# Altium integrated library Actel ProASIC A500K FPGA.IntLib: 292 symbols (part 2 of 2)
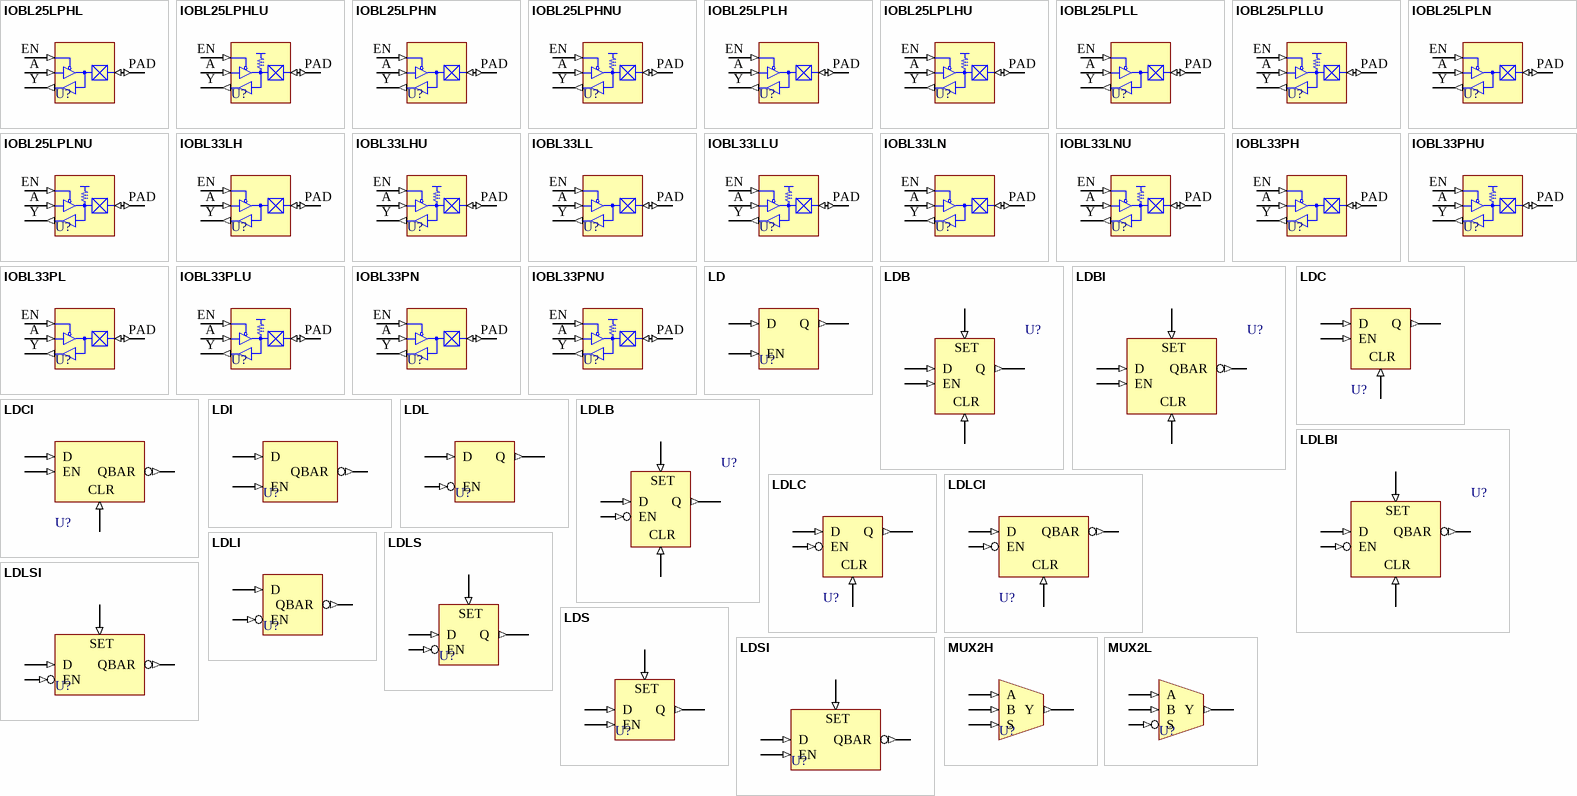
[diagram p8: symbols IOBL25LPHL to MUX2L]

## IOBL33LNU
designator U?
3.3 Volt CMOS input levels, low strength drive, normal slew rate, with pull-up resistor; FPGAVendor: Actel; Published: 21-Jul-2004; Publisher: Altium Limited; HelpURL: http://www.actel.com/documents/PA_libguide.pdf
pins: A (in), EN (in), PAD (io), Y (out)

## IOBL33PH
designator U?
3.3 Volt CMOS input levels, PCI compliant, high slew rate; FPGAVendor: Actel; Published: 21-Jul-2004; Publisher: Altium Limited; HelpURL: http://www.actel.com/documents/PA_libguide.pdf
pins: A (in), EN (in), PAD (io), Y (out)

## IOBL33PHU
designator U?
3.3 Volt CMOS input levels, PCI compliant, high slew rate, with pull-up resistor; FPGAVendor: Actel; Published: 21-Jul-2004; Publisher: Altium Limited; HelpURL: http://www.actel.com/documents/PA_libguide.pdf
pins: A (in), EN (in), PAD (io), Y (out)

## IOBL33PL
designator U?
3.3 Volt CMOS input levels, PCI compliant, low slew rate; FPGAVendor: Actel; Published: 21-Jul-2004; Publisher: Altium Limited; HelpURL: http://www.actel.com/documents/PA_libguide.pdf
pins: A (in), EN (in), PAD (io), Y (out)

## IOBL33PLU
designator U?
3.3 Volt CMOS input levels, PCI compliant, low slew rate, with pull-up resistor; FPGAVendor: Actel; Published: 21-Jul-2004; Publisher: Altium Limited; HelpURL: http://www.actel.com/documents/PA_libguide.pdf
pins: A (in), EN (in), PAD (io), Y (out)

## IOBL33PN
designator U?
3.3 Volt CMOS input levels, PCI compliant, normal slew rate; FPGAVendor: Actel; Published: 21-Jul-2004; Publisher: Altium Limited; HelpURL: http://www.actel.com/documents/PA_libguide.pdf
pins: A (in), EN (in), PAD (io), Y (out)

## IOBL33PNU
designator U?
3.3 Volt CMOS input levels, PCI compliant, normal slew rate, with pull-up resistor; FPGAVendor: Actel; Published: 21-Jul-2004; Publisher: Altium Limited; HelpURL: http://www.actel.com/documents/PA_libguide.pdf
pins: A (in), EN (in), PAD (io), Y (out)

## LD
designator U?
Active High Latch; FPGAVendor: Actel; Published: 21-Jul-2004; Publisher: Altium Limited; HelpURL: http://www.actel.com/documents/PA_libguide.pdf
pins: D (in), EN (in), Q (out)

## LDB
designator U?
Active High Latch with Active High Set and Clear; FPGAVendor: Actel; Published: 21-Jul-2004; Publisher: Altium Limited; HelpURL: http://www.actel.com/documents/PA_libguide.pdf
pins: CLR (in), D (in), EN (in), Q (out), SET (in)

## LDBI
designator U?
Active High Latch with Active High Set and Clear and Active Low Output; FPGAVendor: Actel; Published: 21-Jul-2004; Publisher: Altium Limited; HelpURL: http://www.actel.com/documents/PA_libguide.pdf
pins: CLR (in), D (in), EN (in), QBAR (out), SET (in)

## LDC
designator U?
Active High Latch with Active High Clear; FPGAVendor: Actel; Published: 21-Jul-2004; Publisher: Altium Limited; HelpURL: http://www.actel.com/documents/PA_libguide.pdf
pins: CLR (in), D (in), EN (in), Q (out)

## LDCI
designator U?
Active High Latch with Active High Clear and Active Low Output; FPGAVendor: Actel; Published: 21-Jul-2004; Publisher: Altium Limited; HelpURL: http://www.actel.com/documents/PA_libguide.pdf
pins: CLR (in), D (in), EN (in), QBAR (out)

## LDI
designator U?
Active High Latch with Active Low Output; FPGAVendor: Actel; Published: 21-Jul-2004; Publisher: Altium Limited; HelpURL: http://www.actel.com/documents/PA_libguide.pdf
pins: D (in), EN (in), QBAR (out)

## LDL
designator U?
Active Low Latch; FPGAVendor: Actel; Published: 21-Jul-2004; Publisher: Altium Limited; HelpURL: http://www.actel.com/documents/PA_libguide.pdf
pins: D (in), EN (in), Q (out)

## LDLB
designator U?
Active Low Latch with Active High Set and Clear; FPGAVendor: Actel; Published: 21-Jul-2004; Publisher: Altium Limited; HelpURL: http://www.actel.com/documents/PA_libguide.pdf
pins: CLR (in), D (in), EN (in), Q (out), SET (in)

## LDLBI
designator U?
Active Low Latch with Active High Set and Clear and Active Low Output; FPGAVendor: Actel; Published: 21-Jul-2004; Publisher: Altium Limited; HelpURL: http://www.actel.com/documents/PA_libguide.pdf
pins: CLR (in), D (in), EN (in), QBAR (out), SET (in)

## LDLC
designator U?
Active Low Latch with Active High Clear; FPGAVendor: Actel; Published: 21-Jul-2004; Publisher: Altium Limited; HelpURL: http://www.actel.com/documents/PA_libguide.pdf
pins: CLR (in), D (in), EN (in), Q (out)

## LDLCI
designator U?
Active Low Latch with Active High Clear and Active Low Output; FPGAVendor: Actel; Published: 21-Jul-2004; Publisher: Altium Limited; HelpURL: http://www.actel.com/documents/PA_libguide.pdf
pins: CLR (in), D (in), EN (in), QBAR (out)

## LDLI
designator U?
Active Low Latch with Active Low Output; FPGAVendor: Actel; Published: 21-Jul-2004; Publisher: Altium Limited; HelpURL: http://www.actel.com/documents/PA_libguide.pdf
pins: D (in), EN (in), QBAR (out)

## LDLS
designator U?
Active Low Latch with Active High Set; FPGAVendor: Actel; Published: 21-Jul-2004; Publisher: Altium Limited; HelpURL: http://www.actel.com/documents/PA_libguide.pdf
pins: D (in), EN (in), Q (out), SET (in)

## LDLSI
designator U?
Active Low Latch with Active High Set and Active Low Output; FPGAVendor: Actel; Published: 21-Jul-2004; Publisher: Altium Limited; HelpURL: http://www.actel.com/documents/PA_libguide.pdf
pins: D (in), EN (in), QBAR (out), SET (in)

## LDS
designator U?
Active High Latch with Active High Set; FPGAVendor: Actel; Published: 21-Jul-2004; Publisher: Altium Limited; HelpURL: http://www.actel.com/documents/PA_libguide.pdf
pins: D (in), EN (in), Q (out), SET (in)

## LDSI
designator U?
Active High Latch with Active High Set and Active Low Output; FPGAVendor: Actel; Published: 21-Jul-2004; Publisher: Altium Limited; HelpURL: http://www.actel.com/documents/PA_libguide.pdf
pins: D (in), EN (in), QBAR (out), SET (in)

## MUX2H
designator U?
2 to 1 Multiplexer; FPGAVendor: Actel; Published: 21-Jul-2004; Publisher: Altium Limited; HelpURL: http://www.actel.com/documents/PA_libguide.pdf
pins: A (in), B (in), S (in), Y (out)

## MUX2L
designator U?
2 to 1 Multiplexer with Active Low Select; FPGAVendor: Actel; Published: 21-Jul-2004; Publisher: Altium Limited; HelpURL: http://www.actel.com/documents/PA_libguide.pdf
pins: A (in), B (in), S (in), Y (out)

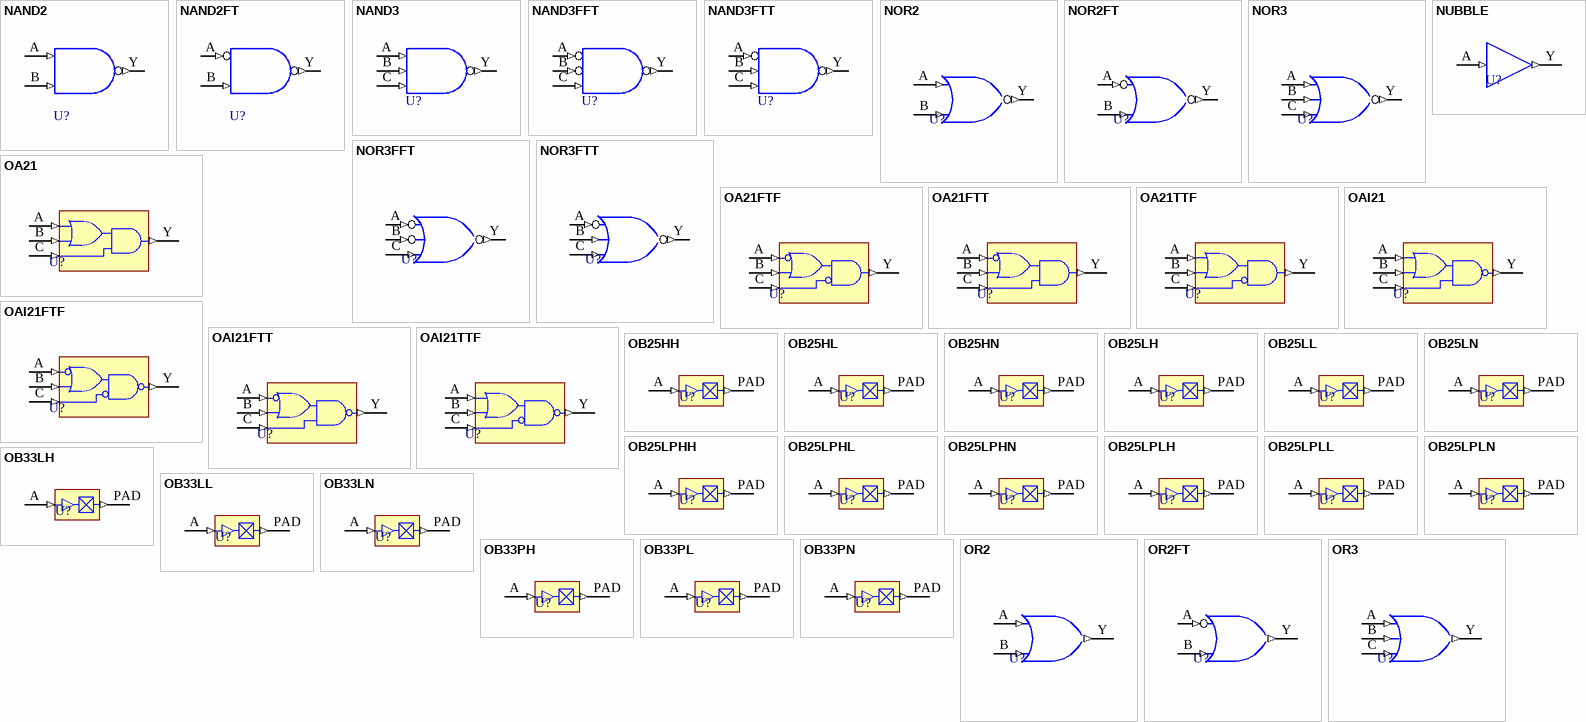
[diagram p5: symbols NAND2 to OR3]

## NAND2
designator U?
2 Input NAND; FPGAVendor: Actel; Published: 21-Jul-2004; Publisher: Altium Limited; HelpURL: http://www.actel.com/documents/PA_libguide.pdf
pins: A (in), B (in), Y (out)

## NAND2FT
designator U?
2 Input NAND with Active Low A Input; FPGAVendor: Actel; Published: 21-Jul-2004; Publisher: Altium Limited; HelpURL: http://www.actel.com/documents/PA_libguide.pdf
pins: A (in), B (in), Y (out)

## NAND3
designator U?
3 Input NAND; FPGAVendor: Actel; Published: 21-Jul-2004; Publisher: Altium Limited; HelpURL: http://www.actel.com/documents/PA_libguide.pdf
pins: A (in), B (in), C (in), Y (out)

## NAND3FFT
designator U?
NAND3FFT; FPGAVendor: Actel; Published: 21-Jul-2004; Publisher: Altium Limited; HelpURL: http://www.actel.com/documents/PA_libguide.pdf
pins: A (in), B (in), C (in), Y (out)

## NAND3FTT
designator U?
NAND3FTT; FPGAVendor: Actel; Published: 21-Jul-2004; Publisher: Altium Limited; HelpURL: http://www.actel.com/documents/PA_libguide.pdf
pins: A (in), B (in), C (in), Y (out)

## NOR2
designator U?
2 Input NOR; FPGAVendor: Actel; Published: 21-Jul-2004; Publisher: Altium Limited; HelpURL: http://www.actel.com/documents/PA_libguide.pdf
pins: A (in), B (in), Y (out)

## NOR2FT
designator U?
2 Input NOR with Active Low A Input; FPGAVendor: Actel; Published: 21-Jul-2004; Publisher: Altium Limited; HelpURL: http://www.actel.com/documents/PA_libguide.pdf
pins: A (in), B (in), Y (out)

## NOR3
designator U?
3 Input NOR; FPGAVendor: Actel; Published: 21-Jul-2004; Publisher: Altium Limited; HelpURL: http://www.actel.com/documents/PA_libguide.pdf
pins: A (in), B (in), C (in), Y (out)

## NOR3FFT
designator U?
3 Input NOR with Active Low A and B Inputs; FPGAVendor: Actel; Published: 21-Jul-2004; Publisher: Altium Limited; HelpURL: http://www.actel.com/documents/PA_libguide.pdf
pins: A (in), B (in), C (in), Y (out)

## NOR3FTT
designator U?
3 Input NOR with Active Low A Input; FPGAVendor: Actel; Published: 21-Jul-2004; Publisher: Altium Limited; HelpURL: http://www.actel.com/documents/PA_libguide.pdf
pins: A (in), B (in), C (in), Y (out)

## NUBBLE
designator U?
Buffer (Only for internal embedded memory); FPGAVendor: Actel; Published: 21-Jul-2004; Publisher: Altium Limited; HelpURL: http://www.actel.com/documents/PA_libguide.pdf
pins: A (in), Y (out)

## OA21
designator U?
3 Input OR-AND; FPGAVendor: Actel; Published: 21-Jul-2004; Publisher: Altium Limited; HelpURL: http://www.actel.com/documents/PA_libguide.pdf
pins: A (in), B (in), C (in), Y (out)

## OA21FTF
designator U?
3 Input OR-AND with Active Low A and C Inputs; FPGAVendor: Actel; Published: 21-Jul-2004; Publisher: Altium Limited; HelpURL: http://www.actel.com/documents/PA_libguide.pdf
pins: A (in), B (in), C (in), Y (out)

## OA21FTT
designator U?
3 Input OR-AND with Active Low A Input; FPGAVendor: Actel; Published: 21-Jul-2004; Publisher: Altium Limited; HelpURL: http://www.actel.com/documents/PA_libguide.pdf
pins: A (in), B (in), C (in), Y (out)

## OA21TTF
designator U?
3 Input OR-AND with Active Low C Input; FPGAVendor: Actel; Published: 21-Jul-2004; Publisher: Altium Limited; HelpURL: http://www.actel.com/documents/PA_libguide.pdf
pins: A (in), B (in), C (in), Y (out)

## OAI21
designator U?
3 Input OR-NAND; FPGAVendor: Actel; Published: 21-Jul-2004; Publisher: Altium Limited; HelpURL: http://www.actel.com/documents/PA_libguide.pdf
pins: A (in), B (in), C (in), Y (out)

## OAI21FTF
designator U?
3 Input OR-NAND with Active Low A and C Inputs; FPGAVendor: Actel; Published: 21-Jul-2004; Publisher: Altium Limited; HelpURL: http://www.actel.com/documents/PA_libguide.pdf
pins: A (in), B (in), C (in), Y (out)

## OAI21FTT
designator U?
3 Input OR-NAND with Active Low A Input; FPGAVendor: Actel; Published: 21-Jul-2004; Publisher: Altium Limited; HelpURL: http://www.actel.com/documents/PA_libguide.pdf
pins: A (in), B (in), C (in), Y (out)

## OAI21TTF
designator U?
3 Input OR-NAND with Active Low C Input; FPGAVendor: Actel; Published: 21-Jul-2004; Publisher: Altium Limited; HelpURL: http://www.actel.com/documents/PA_libguide.pdf
pins: A (in), B (in), C (in), Y (out)

## OB25HH
designator U?
2.5 Volt CMOS input levels, high strength drive, high slew rate; FPGAVendor: Actel; Published: 21-Jul-2004; Publisher: Altium Limited; HelpURL: http://www.actel.com/documents/PA_libguide.pdf
pins: A (in), PAD (out)

## OB25HL
designator U?
2.5 Volt CMOS input levels, high strength drive, low slew rate; FPGAVendor: Actel; Published: 21-Jul-2004; Publisher: Altium Limited; HelpURL: http://www.actel.com/documents/PA_libguide.pdf
pins: A (in), PAD (out)

## OB25HN
designator U?
2.5 Volt CMOS input levels, high strength drive, normal slew rate; FPGAVendor: Actel; Published: 21-Jul-2004; Publisher: Altium Limited; HelpURL: http://www.actel.com/documents/PA_libguide.pdf
pins: A (in), PAD (out)

## OB25LH
designator U?
2.5 Volt CMOS input levels, low strength drive, high slew rate; FPGAVendor: Actel; Published: 21-Jul-2004; Publisher: Altium Limited; HelpURL: http://www.actel.com/documents/PA_libguide.pdf
pins: A (in), PAD (out)

## OB25LL
designator U?
2.5 Volt CMOS input levels, low strength drive, low slew rate; FPGAVendor: Actel; Published: 21-Jul-2004; Publisher: Altium Limited; HelpURL: http://www.actel.com/documents/PA_libguide.pdf
pins: A (in), PAD (out)

## OB25LN
designator U?
2.5 Volt CMOS input levels, low strength drive, normal slew rate; FPGAVendor: Actel; Published: 21-Jul-2004; Publisher: Altium Limited; HelpURL: http://www.actel.com/documents/PA_libguide.pdf
pins: A (in), PAD (out)

## OB25LPHH
designator U?
2.5 Volt CMOS input levels, low power, high strength drive, high slew rate; FPGAVendor: Actel; Published: 21-Jul-2004; Publisher: Altium Limited; HelpURL: http://www.actel.com/documents/PA_libguide.pdf
pins: A (in), PAD (out)

## OB25LPHL
designator U?
2.5 Volt CMOS input levels, low power, high strength drive, low slew rate; FPGAVendor: Actel; Published: 21-Jul-2004; Publisher: Altium Limited; HelpURL: http://www.actel.com/documents/PA_libguide.pdf
pins: A (in), PAD (out)

## OB25LPHN
designator U?
2.5 Volt CMOS input levels, low power, high strength drive, normal slew rate; FPGAVendor: Actel; Published: 21-Jul-2004; Publisher: Altium Limited; HelpURL: http://www.actel.com/documents/PA_libguide.pdf
pins: A (in), PAD (out)

## OB25LPLH
designator U?
2.5 Volt CMOS input levels, low power, low strength drive, high slew rate; FPGAVendor: Actel; Published: 21-Jul-2004; Publisher: Altium Limited; HelpURL: http://www.actel.com/documents/PA_libguide.pdf
pins: A (in), PAD (out)

## OB25LPLL
designator U?
2.5 Volt CMOS input levels, low power, low strength drive, low slew rate; FPGAVendor: Actel; Published: 21-Jul-2004; Publisher: Altium Limited; HelpURL: http://www.actel.com/documents/PA_libguide.pdf
pins: A (in), PAD (out)

## OB25LPLN
designator U?
2.5 Volt CMOS input levels, low power, low strength drive, normal slew rate; FPGAVendor: Actel; Published: 21-Jul-2004; Publisher: Altium Limited; HelpURL: http://www.actel.com/documents/PA_libguide.pdf
pins: A (in), PAD (out)

## OB33LH
designator U?
3.3 Volt CMOS input levels, low strength drive, high slew rate; FPGAVendor: Actel; Published: 21-Jul-2004; Publisher: Altium Limited; HelpURL: http://www.actel.com/documents/PA_libguide.pdf
pins: A (in), PAD (out)

## OB33LL
designator U?
3.3 Volt CMOS input levels, low strength drive, low slew rate; FPGAVendor: Actel; Published: 21-Jul-2004; Publisher: Altium Limited; HelpURL: http://www.actel.com/documents/PA_libguide.pdf
pins: A (in), PAD (out)

## OB33LN
designator U?
3.3 Volt CMOS input levels, low strength drive, normal slew rate; FPGAVendor: Actel; Published: 21-Jul-2004; Publisher: Altium Limited; HelpURL: http://www.actel.com/documents/PA_libguide.pdf
pins: A (in), PAD (out)

## OB33PH
designator U?
3.3 Volt CMOS input levels, PCI compliant, high slew rate; FPGAVendor: Actel; Published: 21-Jul-2004; Publisher: Altium Limited; HelpURL: http://www.actel.com/documents/PA_libguide.pdf
pins: A (in), PAD (out)

## OB33PL
designator U?
3.3 Volt CMOS input levels, PCI compliant, low slew rate; FPGAVendor: Actel; Published: 21-Jul-2004; Publisher: Altium Limited; HelpURL: http://www.actel.com/documents/PA_libguide.pdf
pins: A (in), PAD (out)

## OB33PN
designator U?
3.3 Volt CMOS input levels, PCI compliant, normal slew rate; FPGAVendor: Actel; Published: 21-Jul-2004; Publisher: Altium Limited; HelpURL: http://www.actel.com/documents/PA_libguide.pdf
pins: A (in), PAD (out)

## OR2
designator U?
2 Input OR; FPGAVendor: Actel; Published: 21-Jul-2004; Publisher: Altium Limited; HelpURL: http://www.actel.com/documents/PA_libguide.pdf
pins: A (in), B (in), Y (out)

## OR2FT
designator U?
2 Input OR with Active Low A Input; FPGAVendor: Actel; Published: 21-Jul-2004; Publisher: Altium Limited; HelpURL: http://www.actel.com/documents/PA_libguide.pdf
pins: A (in), B (in), Y (out)

## OR3
designator U?
3 Input OR; FPGAVendor: Actel; Published: 21-Jul-2004; Publisher: Altium Limited; HelpURL: http://www.actel.com/documents/PA_libguide.pdf
pins: A (in), B (in), C (in), Y (out)

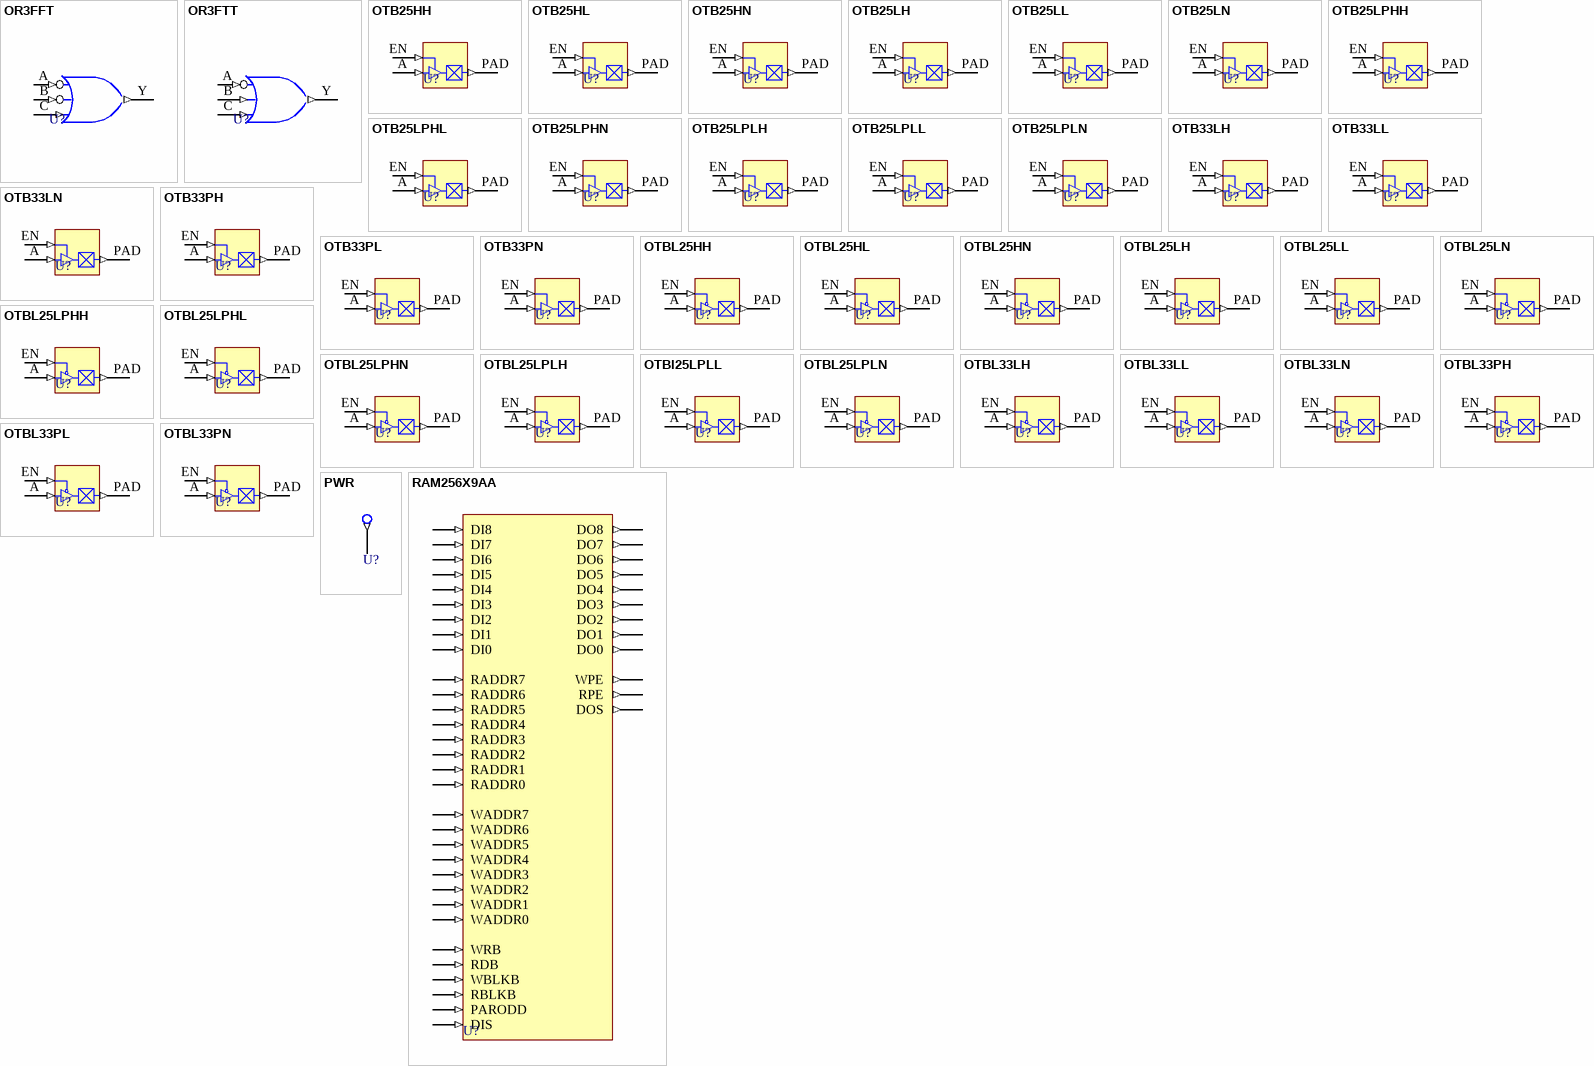
[diagram p6: symbols OR3FFT to RAM256X9AA]

## OR3FFT
designator U?
3 Input OR with Active Low A and B Inputs; FPGAVendor: Actel; Published: 21-Jul-2004; Publisher: Altium Limited; HelpURL: http://www.actel.com/documents/PA_libguide.pdf
pins: A (in), B (in), C (in), Y (out)

## OR3FTT
designator U?
3 Input OR with Active Low A Input; FPGAVendor: Actel; Published: 21-Jul-2004; Publisher: Altium Limited; HelpURL: http://www.actel.com/documents/PA_libguide.pdf
pins: A (in), B (in), C (in), Y (out)

## OTB25HH
designator U?
2.5 Volt CMOS input levels, high strength drive, high slew rate; FPGAVendor: Actel; Published: 21-Jul-2004; Publisher: Altium Limited; HelpURL: http://www.actel.com/documents/PA_libguide.pdf
pins: A (in), EN (in), PAD (out)

## OTB25HL
designator U?
2.5 Volt CMOS input levels, high strength drive, low slew rate; FPGAVendor: Actel; Published: 21-Jul-2004; Publisher: Altium Limited; HelpURL: http://www.actel.com/documents/PA_libguide.pdf
pins: A (in), EN (in), PAD (out)

## OTB25HN
designator U?
2.5 Volt CMOS input levels, high strength drive, normal slew rate; FPGAVendor: Actel; Published: 21-Jul-2004; Publisher: Altium Limited; HelpURL: http://www.actel.com/documents/PA_libguide.pdf
pins: A (in), EN (in), PAD (out)

## OTB25LH
designator U?
2.5 Volt CMOS input levels, low strength drive, high slew rate; FPGAVendor: Actel; Published: 21-Jul-2004; Publisher: Altium Limited; HelpURL: http://www.actel.com/documents/PA_libguide.pdf
pins: A (in), EN (in), PAD (out)

## OTB25LL
designator U?
2.5 Volt CMOS input levels, low strength drive, low slew rate; FPGAVendor: Actel; Published: 21-Jul-2004; Publisher: Altium Limited; HelpURL: http://www.actel.com/documents/PA_libguide.pdf
pins: A (in), EN (in), PAD (out)

## OTB25LN
designator U?
2.5 Volt CMOS input levels, low strength drive, normal slew rate; FPGAVendor: Actel; Published: 21-Jul-2004; Publisher: Altium Limited; HelpURL: http://www.actel.com/documents/PA_libguide.pdf
pins: A (in), EN (in), PAD (out)

## OTB25LPHH
designator U?
2.5 Volt CMOS input levels, low power, high strength drive, high slew rate; FPGAVendor: Actel; Published: 21-Jul-2004; Publisher: Altium Limited; HelpURL: http://www.actel.com/documents/PA_libguide.pdf
pins: A (in), EN (in), PAD (out)

## OTB25LPHL
designator U?
2.5 Volt CMOS input levels, low power, high strength drive, low slew rate; FPGAVendor: Actel; Published: 21-Jul-2004; Publisher: Altium Limited; HelpURL: http://www.actel.com/documents/PA_libguide.pdf
pins: A (in), EN (in), PAD (out)

## OTB25LPHN
designator U?
2.5 Volt CMOS input levels, low power, high strength drive, normal slew rate; FPGAVendor: Actel; Published: 21-Jul-2004; Publisher: Altium Limited; HelpURL: http://www.actel.com/documents/PA_libguide.pdf
pins: A (in), EN (in), PAD (out)

## OTB25LPLH
designator U?
2.5 Volt CMOS input levels, low power, low strength drive, high slew rate; FPGAVendor: Actel; Published: 21-Jul-2004; Publisher: Altium Limited; HelpURL: http://www.actel.com/documents/PA_libguide.pdf
pins: A (in), EN (in), PAD (out)

## OTB25LPLL
designator U?
2.5 Volt CMOS input levels, low power, low strength drive, low slew rate; FPGAVendor: Actel; Published: 21-Jul-2004; Publisher: Altium Limited; HelpURL: http://www.actel.com/documents/PA_libguide.pdf
pins: A (in), EN (in), PAD (out)

## OTB25LPLN
designator U?
2.5 Volt CMOS input levels, low power, low strength drive, normal slew rate; FPGAVendor: Actel; Published: 21-Jul-2004; Publisher: Altium Limited; HelpURL: http://www.actel.com/documents/PA_libguide.pdf
pins: A (in), EN (in), PAD (out)

## OTB33LH
designator U?
3.3 Volt CMOS input levels, low strength drive, high slew rate; FPGAVendor: Actel; Published: 21-Jul-2004; Publisher: Altium Limited; HelpURL: http://www.actel.com/documents/PA_libguide.pdf
pins: A (in), EN (in), PAD (out)

## OTB33LL
designator U?
3.3 Volt CMOS input levels, low strength drive, low slew rate; FPGAVendor: Actel; Published: 21-Jul-2004; Publisher: Altium Limited; HelpURL: http://www.actel.com/documents/PA_libguide.pdf
pins: A (in), EN (in), PAD (out)

## OTB33LN
designator U?
3.3 Volt CMOS input levels, low strength drive, normal slew rate; FPGAVendor: Actel; Published: 21-Jul-2004; Publisher: Altium Limited; HelpURL: http://www.actel.com/documents/PA_libguide.pdf
pins: A (in), EN (in), PAD (out)

## OTB33PH
designator U?
3.3 Volt CMOS input levels, PCI compliant, high slew rate; FPGAVendor: Actel; Published: 21-Jul-2004; Publisher: Altium Limited; HelpURL: http://www.actel.com/documents/PA_libguide.pdf
pins: A (in), EN (in), PAD (out)

## OTB33PL
designator U?
3.3 Volt CMOS input levels, PCI compliant, low slew rate; FPGAVendor: Actel; Published: 21-Jul-2004; Publisher: Altium Limited; HelpURL: http://www.actel.com/documents/PA_libguide.pdf
pins: A (in), EN (in), PAD (out)

## OTB33PN
designator U?
3.3 Volt CMOS input levels, PCI compliant, normal slew rate; FPGAVendor: Actel; Published: 21-Jul-2004; Publisher: Altium Limited; HelpURL: http://www.actel.com/documents/PA_libguide.pdf
pins: A (in), EN (in), PAD (out)

## OTBL25HH
designator U?
2.5 Volt CMOS input levels, high strength drive, high slew rate; FPGAVendor: Actel; Published: 21-Jul-2004; Publisher: Altium Limited; HelpURL: http://www.actel.com/documents/PA_libguide.pdf
pins: A (in), EN (in), PAD (out)

## OTBL25HL
designator U?
2.5 Volt CMOS input levels, high strength drive, low slew rate; FPGAVendor: Actel; Published: 21-Jul-2004; Publisher: Altium Limited; HelpURL: http://www.actel.com/documents/PA_libguide.pdf
pins: A (in), EN (in), PAD (out)

## OTBL25HN
designator U?
2.5 Volt CMOS input levels, high strength drive, normal slew rate; FPGAVendor: Actel; Published: 21-Jul-2004; Publisher: Altium Limited; HelpURL: http://www.actel.com/documents/PA_libguide.pdf
pins: A (in), EN (in), PAD (out)

## OTBL25LH
designator U?
2.5 Volt CMOS input levels, low strength drive, high slew rate; FPGAVendor: Actel; Published: 21-Jul-2004; Publisher: Altium Limited; HelpURL: http://www.actel.com/documents/PA_libguide.pdf
pins: A (in), EN (in), PAD (out)

## OTBL25LL
designator U?
2.5 Volt CMOS input levels, low strength drive, low slew rate; FPGAVendor: Actel; Published: 21-Jul-2004; Publisher: Altium Limited; HelpURL: http://www.actel.com/documents/PA_libguide.pdf
pins: A (in), EN (in), PAD (out)

## OTBL25LN
designator U?
2.5 Volt CMOS input levels, low strength drive, normal slew rate; FPGAVendor: Actel; Published: 21-Jul-2004; Publisher: Altium Limited; HelpURL: http://www.actel.com/documents/PA_libguide.pdf
pins: A (in), EN (in), PAD (out)

## OTBL25LPHH
designator U?
2.5 Volt CMOS input levels, low power, high strength drive, high slew rate; FPGAVendor: Actel; Published: 21-Jul-2004; Publisher: Altium Limited; HelpURL: http://www.actel.com/documents/PA_libguide.pdf
pins: A (in), EN (in), PAD (out)

## OTBL25LPHL
designator U?
2.5 Volt CMOS input levels, low power, high strength drive, low slew rate; FPGAVendor: Actel; Published: 21-Jul-2004; Publisher: Altium Limited; HelpURL: http://www.actel.com/documents/PA_libguide.pdf
pins: A (in), EN (in), PAD (out)

## OTBL25LPHN
designator U?
2.5 Volt CMOS input levels, low power, high strength drive, normal slew rate; FPGAVendor: Actel; Published: 21-Jul-2004; Publisher: Altium Limited; HelpURL: http://www.actel.com/documents/PA_libguide.pdf
pins: A (in), EN (in), PAD (out)

## OTBL25LPLH
designator U?
2.5 Volt CMOS input levels, low power, low strength drive, high slew rate; FPGAVendor: Actel; Published: 21-Jul-2004; Publisher: Altium Limited; HelpURL: http://www.actel.com/documents/PA_libguide.pdf
pins: A (in), EN (in), PAD (out)

## OTBl25LPLL
designator U?
2.5 Volt CMOS input levels, low power, low strength drive, low slew rate; FPGAVendor: Actel; Published: 21-Jul-2004; Publisher: Altium Limited; HelpURL: http://www.actel.com/documents/PA_libguide.pdf
pins: A (in), EN (in), PAD (out)

## OTBL25LPLN
designator U?
2.5 Volt CMOS input levels, low power, low strength drive, normal slew rate; FPGAVendor: Actel; Published: 21-Jul-2004; Publisher: Altium Limited; HelpURL: http://www.actel.com/documents/PA_libguide.pdf
pins: A (in), EN (in), PAD (out)

## OTBL33LH
designator U?
3.3 Volt CMOS input levels, low strength drive, high slew rate; FPGAVendor: Actel; Published: 21-Jul-2004; Publisher: Altium Limited; HelpURL: http://www.actel.com/documents/PA_libguide.pdf
pins: A (in), EN (in), PAD (out)

## OTBL33LL
designator U?
3.3 Volt CMOS input levels, low strength drive, low slew rate; FPGAVendor: Actel; Published: 21-Jul-2004; Publisher: Altium Limited; HelpURL: http://www.actel.com/documents/PA_libguide.pdf
pins: A (in), EN (in), PAD (out)

## OTBL33LN
designator U?
3.3 Volt CMOS input levels, low strength drive, normal slew rate; FPGAVendor: Actel; Published: 21-Jul-2004; Publisher: Altium Limited; HelpURL: http://www.actel.com/documents/PA_libguide.pdf
pins: A (in), EN (in), PAD (out)

## OTBL33PH
designator U?
3.3 Volt CMOS input levels, PCI compliant, high slew rate; FPGAVendor: Actel; Published: 21-Jul-2004; Publisher: Altium Limited; HelpURL: http://www.actel.com/documents/PA_libguide.pdf
pins: A (in), EN (in), PAD (out)

## OTBL33PL
designator U?
3.3 Volt CMOS input levels, PCI compliant, low slew rate; FPGAVendor: Actel; Published: 21-Jul-2004; Publisher: Altium Limited; HelpURL: http://www.actel.com/documents/PA_libguide.pdf
pins: A (in), EN (in), PAD (out)

## OTBL33PN
designator U?
3.3 Volt CMOS input levels, PCI compliant, normal slew rate; FPGAVendor: Actel; Published: 21-Jul-2004; Publisher: Altium Limited; HelpURL: http://www.actel.com/documents/PA_libguide.pdf
pins: A (in), EN (in), PAD (out)

## PWR
designator U?
Power; FPGAVendor: Actel; Published: 21-Jul-2004; Publisher: Altium Limited; HelpURL: http://www.actel.com/documents/PA_libguide.pdf
pins: Y (out)

## RAM256X9AA
designator U?
Asynchronous Write/Asynchronous Read RAM with Parity Checking; FPGAVendor: Actel; Published: 21-Jul-2004; Publisher: Altium Limited; HelpURL: http://www.actel.com/documents/PA_libguide.pdf
pins: DI0 (in), DI1 (in), DI2 (in), DI3 (in), DI4 (in), DI5 (in), DI6 (in), DI7 (in), DI8 (in), DIS (in), DO0 (out), DO1 (out), DO2 (out), DO3 (out), DO4 (out), DO5 (out), DO6 (out), DO7 (out), DO8 (out), DOS (out), PARODD (in), RADDR0 (in), RADDR1 (in), RADDR2 (in), RADDR3 (in), RADDR4 (in), RADDR5 (in), RADDR6 (in), RADDR7 (in), RBLKB (in), RDB (in), RPE (out), WADDR0 (in), WADDR1 (in), WADDR2 (in), WADDR3 (in), WADDR4 (in), WADDR5 (in), WADDR6 (in), WADDR7 (in), WBLKB (in), WPE (out), WRB (in)

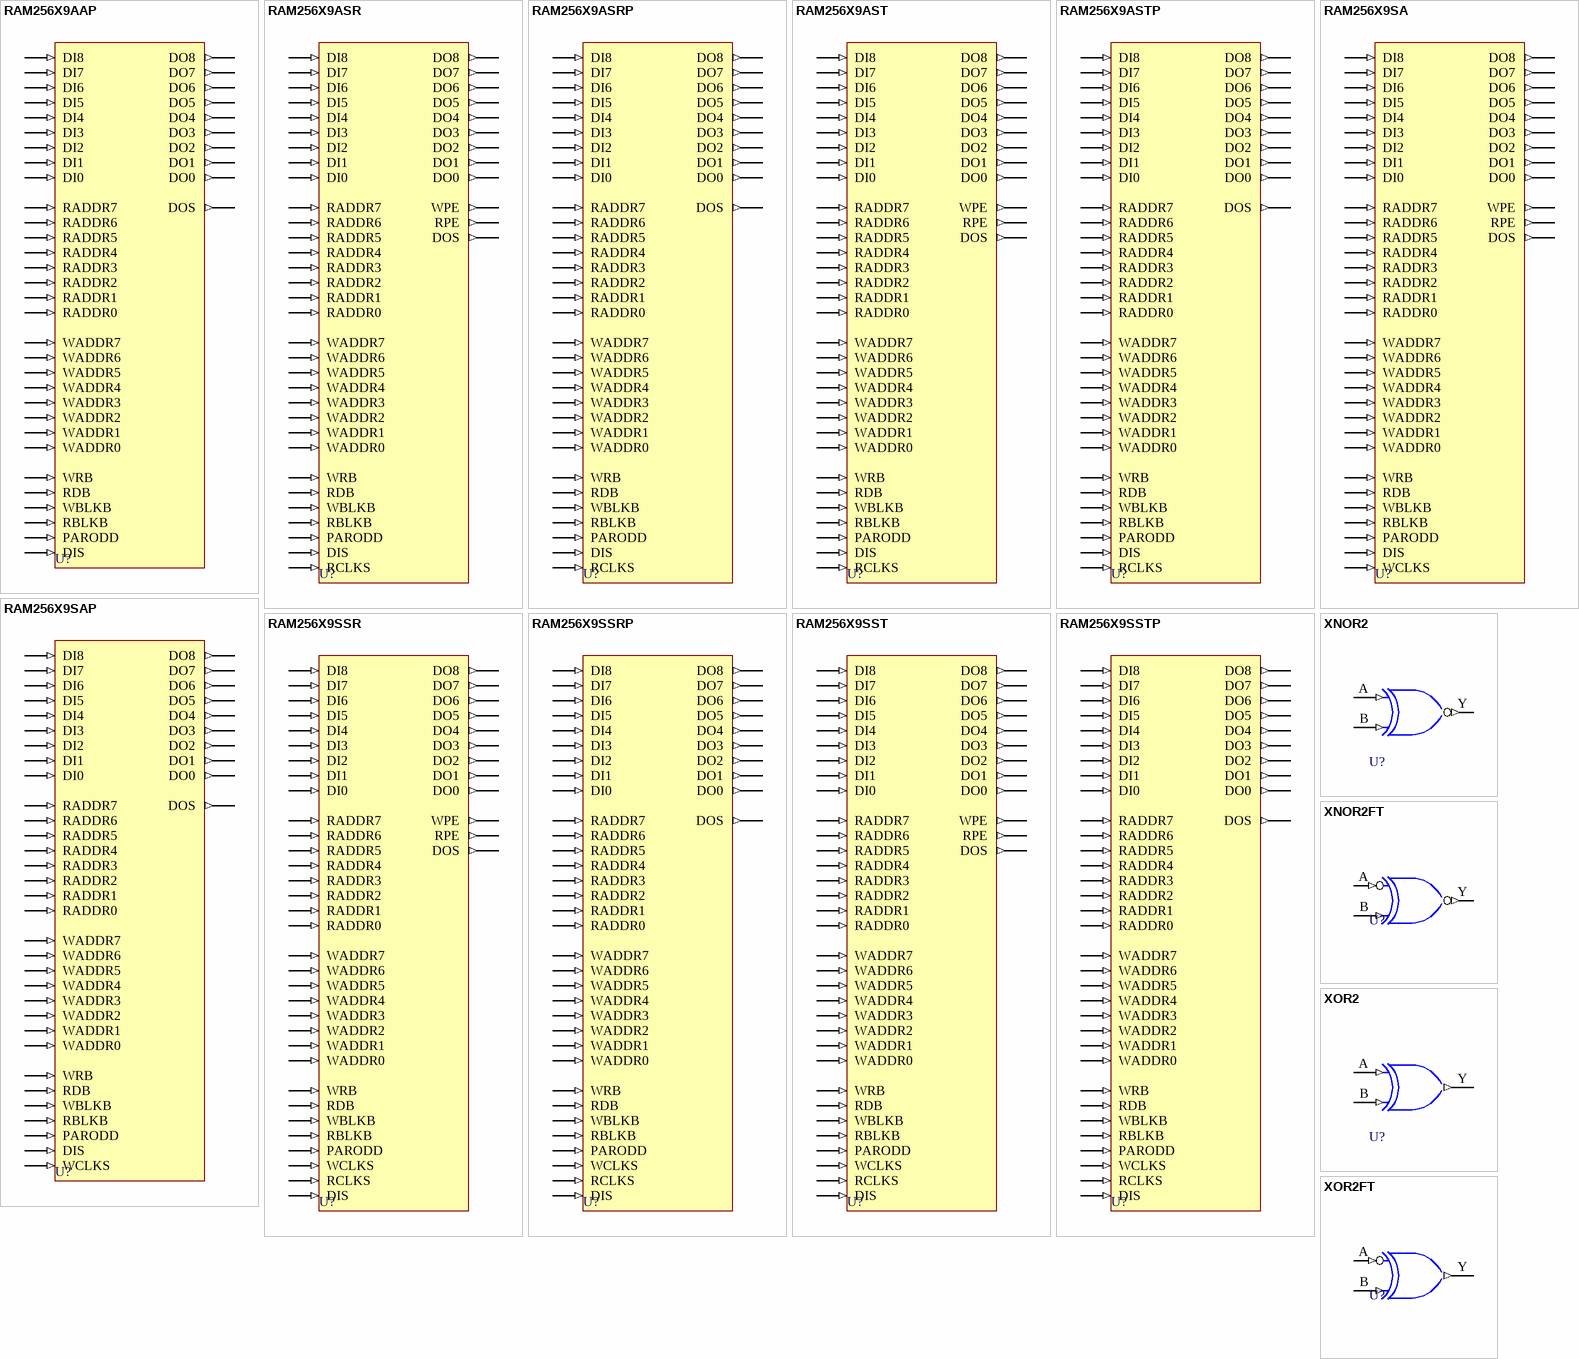
[diagram p7: symbols RAM256X9AAP to XOR2FT]

## RAM256X9AAP
designator U?
Asynchronous Write/Asynchronous Read RAM with Parity Generation; FPGAVendor: Actel; Published: 21-Jul-2004; Publisher: Altium Limited; HelpURL: http://www.actel.com/documents/PA_libguide.pdf
pins: DI0 (in), DI1 (in), DI2 (in), DI3 (in), DI4 (in), DI5 (in), DI6 (in), DI7 (in), DI8 (in), DIS (in), DO0 (out), DO1 (out), DO2 (out), DO3 (out), DO4 (out), DO5 (out), DO6 (out), DO7 (out), DO8 (out), DOS (out), PARODD (in), RADDR0 (in), RADDR1 (in), RADDR2 (in), RADDR3 (in), RADDR4 (in), RADDR5 (in), RADDR6 (in), RADDR7 (in), RBLKB (in), RDB (in), WADDR0 (in), WADDR1 (in), WADDR2 (in), WADDR3 (in), WADDR4 (in), WADDR5 (in), WADDR6 (in), WADDR7 (in), WBLKB (in), WRB (in)

## RAM256X9ASR
designator U?
Asynchronous Write/Synchronous Read RAM with / Registered Output and Parity Checking; FPGAVendor: Actel; Published: 21-Jul-2004; Publisher: Altium Limited; HelpURL: http://www.actel.com/documents/PA_libguide.pdf
pins: DI0 (in), DI1 (in), DI2 (in), DI3 (in), DI4 (in), DI5 (in), DI6 (in), DI7 (in), DI8 (in), DIS (in), DO0 (out), DO1 (out), DO2 (out), DO3 (out), DO4 (out), DO5 (out), DO6 (out), DO7 (out), DO8 (out), DOS (out), PARODD (in), RADDR0 (in), RADDR1 (in), RADDR2 (in), RADDR3 (in), RADDR4 (in), RADDR5 (in), RADDR6 (in), RADDR7 (in), RBLKB (in), RCLKS (in), RDB (in), RPE (out), WADDR0 (in), WADDR1 (in), WADDR2 (in), WADDR3 (in), WADDR4 (in), WADDR5 (in), WADDR6 (in), WADDR7 (in), WBLKB (in), WPE (out), WRB (in)

## RAM256X9ASRP
designator U?
Asynchronous Write/Synchronous Read RAM with / Registered Output and Parity Generation; FPGAVendor: Actel; Published: 21-Jul-2004; Publisher: Altium Limited; HelpURL: http://www.actel.com/documents/PA_libguide.pdf
pins: DI0 (in), DI1 (in), DI2 (in), DI3 (in), DI4 (in), DI5 (in), DI6 (in), DI7 (in), DI8 (in), DIS (in), DO0 (out), DO1 (out), DO2 (out), DO3 (out), DO4 (out), DO5 (out), DO6 (out), DO7 (out), DO8 (out), DOS (out), PARODD (in), RADDR0 (in), RADDR1 (in), RADDR2 (in), RADDR3 (in), RADDR4 (in), RADDR5 (in), RADDR6 (in), RADDR7 (in), RBLKB (in), RCLKS (in), RDB (in), WADDR0 (in), WADDR1 (in), WADDR2 (in), WADDR3 (in), WADDR4 (in), WADDR5 (in), WADDR6 (in), WADDR7 (in), WBLKB (in), WRB (in)

## RAM256X9AST
designator U?
Asynchronous Write/Synchronous Read RAM with / Transparent Output and Parity Checking; FPGAVendor: Actel; Published: 21-Jul-2004; Publisher: Altium Limited; HelpURL: http://www.actel.com/documents/PA_libguide.pdf
pins: DI0 (in), DI1 (in), DI2 (in), DI3 (in), DI4 (in), DI5 (in), DI6 (in), DI7 (in), DI8 (in), DIS (in), DO0 (out), DO1 (out), DO2 (out), DO3 (out), DO4 (out), DO5 (out), DO6 (out), DO7 (out), DO8 (out), DOS (out), PARODD (in), RADDR0 (in), RADDR1 (in), RADDR2 (in), RADDR3 (in), RADDR4 (in), RADDR5 (in), RADDR6 (in), RADDR7 (in), RBLKB (in), RCLKS (in), RDB (in), RPE (out), WADDR0 (in), WADDR1 (in), WADDR2 (in), WADDR3 (in), WADDR4 (in), WADDR5 (in), WADDR6 (in), WADDR7 (in), WBLKB (in), WPE (out), WRB (in)

## RAM256X9ASTP
designator U?
Asynchronous Write/Synchronous Read RAM with / Transparent Output and Parity Generation; FPGAVendor: Actel; Published: 21-Jul-2004; Publisher: Altium Limited; HelpURL: http://www.actel.com/documents/PA_libguide.pdf
pins: DI0 (in), DI1 (in), DI2 (in), DI3 (in), DI4 (in), DI5 (in), DI6 (in), DI7 (in), DI8 (in), DIS (in), DO0 (out), DO1 (out), DO2 (out), DO3 (out), DO4 (out), DO5 (out), DO6 (out), DO7 (out), DO8 (out), DOS (out), PARODD (in), RADDR0 (in), RADDR1 (in), RADDR2 (in), RADDR3 (in), RADDR4 (in), RADDR5 (in), RADDR6 (in), RADDR7 (in), RBLKB (in), RCLKS (in), RDB (in), WADDR0 (in), WADDR1 (in), WADDR2 (in), WADDR3 (in), WADDR4 (in), WADDR5 (in), WADDR6 (in), WADDR7 (in), WBLKB (in), WRB (in)

## RAM256X9SA
designator U?
Synchronous Write/Asynchronous Read RAM with Parity / Checking; FPGAVendor: Actel; Published: 21-Jul-2004; Publisher: Altium Limited; HelpURL: http://www.actel.com/documents/PA_libguide.pdf
pins: DI0 (in), DI1 (in), DI2 (in), DI3 (in), DI4 (in), DI5 (in), DI6 (in), DI7 (in), DI8 (in), DIS (in), DO0 (out), DO1 (out), DO2 (out), DO3 (out), DO4 (out), DO5 (out), DO6 (out), DO7 (out), DO8 (out), DOS (out), PARODD (in), RADDR0 (in), RADDR1 (in), RADDR2 (in), RADDR3 (in), RADDR4 (in), RADDR5 (in), RADDR6 (in), RADDR7 (in), RBLKB (in), RDB (in), RPE (out), WADDR0 (in), WADDR1 (in), WADDR2 (in), WADDR3 (in), WADDR4 (in), WADDR5 (in), WADDR6 (in), WADDR7 (in), WBLKB (in), WCLKS (in), WPE (out), WRB (in)

## RAM256X9SAP
designator U?
Synchronous Write/Asynchronous Read RAM with Parity / Generation; FPGAVendor: Actel; Published: 21-Jul-2004; Publisher: Altium Limited; HelpURL: http://www.actel.com/documents/PA_libguide.pdf
pins: DI0 (in), DI1 (in), DI2 (in), DI3 (in), DI4 (in), DI5 (in), DI6 (in), DI7 (in), DI8 (in), DIS (in), DO0 (out), DO1 (out), DO2 (out), DO3 (out), DO4 (out), DO5 (out), DO6 (out), DO7 (out), DO8 (out), DOS (out), PARODD (in), RADDR0 (in), RADDR1 (in), RADDR2 (in), RADDR3 (in), RADDR4 (in), RADDR5 (in), RADDR6 (in), RADDR7 (in), RBLKB (in), RDB (in), WADDR0 (in), WADDR1 (in), WADDR2 (in), WADDR3 (in), WADDR4 (in), WADDR5 (in), WADDR6 (in), WADDR7 (in), WBLKB (in), WCLKS (in), WRB (in)

## RAM256X9SSR
designator U?
Synchronous Write/Synchronous Read RAM with Registered Output and Parity Checking; FPGAVendor: Actel; Published: 21-Jul-2004; Publisher: Altium Limited; HelpURL: http://www.actel.com/documents/PA_libguide.pdf
pins: DI0 (in), DI1 (in), DI2 (in), DI3 (in), DI4 (in), DI5 (in), DI6 (in), DI7 (in), DI8 (in), DIS (in), DO0 (out), DO1 (out), DO2 (out), DO3 (out), DO4 (out), DO5 (out), DO6 (out), DO7 (out), DO8 (out), DOS (out), PARODD (in), RADDR0 (in), RADDR1 (in), RADDR2 (in), RADDR3 (in), RADDR4 (in), RADDR5 (in), RADDR6 (in), RADDR7 (in), RBLKB (in), RCLKS (in), RDB (in), RPE (out), WADDR0 (in), WADDR1 (in), WADDR2 (in), WADDR3 (in), WADDR4 (in), WADDR5 (in), WADDR6 (in), WADDR7 (in), WBLKB (in), WCLKS (in), WPE (out), WRB (in)

## RAM256X9SSRP
designator U?
Synchronous Write/Synchronous Read RAM with Registered Output and Parity Generation; FPGAVendor: Actel; Published: 21-Jul-2004; Publisher: Altium Limited; HelpURL: http://www.actel.com/documents/PA_libguide.pdf
pins: DI0 (in), DI1 (in), DI2 (in), DI3 (in), DI4 (in), DI5 (in), DI6 (in), DI7 (in), DI8 (in), DIS (in), DO0 (out), DO1 (out), DO2 (out), DO3 (out), DO4 (out), DO5 (out), DO6 (out), DO7 (out), DO8 (out), DOS (out), PARODD (in), RADDR0 (in), RADDR1 (in), RADDR2 (in), RADDR3 (in), RADDR4 (in), RADDR5 (in), RADDR6 (in), RADDR7 (in), RBLKB (in), RCLKS (in), RDB (in), WADDR0 (in), WADDR1 (in), WADDR2 (in), WADDR3 (in), WADDR4 (in), WADDR5 (in), WADDR6 (in), WADDR7 (in), WBLKB (in), WCLKS (in), WRB (in)

## RAM256X9SST
designator U?
Synchronous Write/Synchronous Read RAM with Transparent Output and Parity Checking; FPGAVendor: Actel; Published: 21-Jul-2004; Publisher: Altium Limited; HelpURL: http://www.actel.com/documents/PA_libguide.pdf
pins: DI0 (in), DI1 (in), DI2 (in), DI3 (in), DI4 (in), DI5 (in), DI6 (in), DI7 (in), DI8 (in), DIS (in), DO0 (out), DO1 (out), DO2 (out), DO3 (out), DO4 (out), DO5 (out), DO6 (out), DO7 (out), DO8 (out), DOS (out), PARODD (in), RADDR0 (in), RADDR1 (in), RADDR2 (in), RADDR3 (in), RADDR4 (in), RADDR5 (in), RADDR6 (in), RADDR7 (in), RBLKB (in), RCLKS (in), RDB (in), RPE (out), WADDR0 (in), WADDR1 (in), WADDR2 (in), WADDR3 (in), WADDR4 (in), WADDR5 (in), WADDR6 (in), WADDR7 (in), WBLKB (in), WCLKS (in), WPE (out), WRB (in)

## RAM256X9SSTP
designator U?
Synchronous Write/Synchronous Read RAM with Transparent Output and Parity Generation; FPGAVendor: Actel; Published: 21-Jul-2004; Publisher: Altium Limited; HelpURL: http://www.actel.com/documents/PA_libguide.pdf
pins: DI0 (in), DI1 (in), DI2 (in), DI3 (in), DI4 (in), DI5 (in), DI6 (in), DI7 (in), DI8 (in), DIS (in), DO0 (out), DO1 (out), DO2 (out), DO3 (out), DO4 (out), DO5 (out), DO6 (out), DO7 (out), DO8 (out), DOS (out), PARODD (in), RADDR0 (in), RADDR1 (in), RADDR2 (in), RADDR3 (in), RADDR4 (in), RADDR5 (in), RADDR6 (in), RADDR7 (in), RBLKB (in), RCLKS (in), RDB (in), WADDR0 (in), WADDR1 (in), WADDR2 (in), WADDR3 (in), WADDR4 (in), WADDR5 (in), WADDR6 (in), WADDR7 (in), WBLKB (in), WCLKS (in), WRB (in)

## XNOR2
designator U?
2 Input Exclusive NOR; FPGAVendor: Actel; Published: 21-Jul-2004; Publisher: Altium Limited; HelpURL: http://www.actel.com/documents/PA_libguide.pdf
pins: A (in), B (in), Y (out)

## XNOR2FT
designator U?
2 Input Exclusive NOR with Active Low A Input; FPGAVendor: Actel; Published: 21-Jul-2004; Publisher: Altium Limited; HelpURL: http://www.actel.com/documents/PA_libguide.pdf
pins: A (in), B (in), Y (out)

## XOR2
designator U?
2 Input Exclusive OR; FPGAVendor: Actel; Published: 21-Jul-2004; Publisher: Altium Limited; HelpURL: http://www.actel.com/documents/PA_libguide.pdf
pins: A (in), B (in), Y (out)

## XOR2FT
designator U?
2 Input Exclusive OR with Active Low A Input; FPGAVendor: Actel; Published: 21-Jul-2004; Publisher: Altium Limited; HelpURL: http://www.actel.com/documents/PA_libguide.pdf
pins: A (in), B (in), Y (out)